# EAGLE library part SSW-103-22-F-D-VS-K-TR (library SSW-103-22-F-D-VS-K-TR)
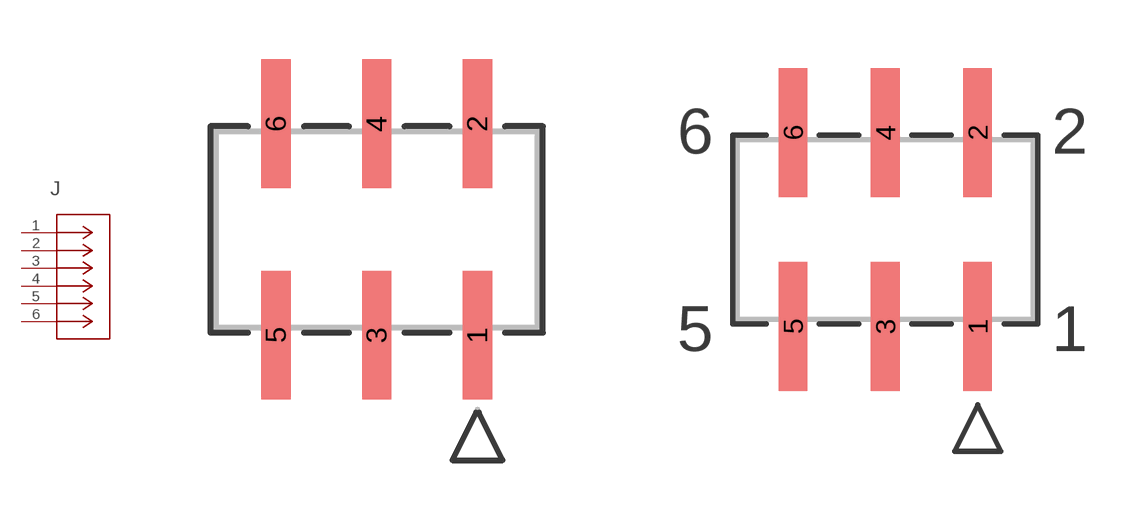
[diagram p0: symbol with the pads of CON3_SSW-D-DUMZ_HDR_SAI; footprints CON3_SSW-D-DUMZ_HDR_SAI, CON3_SSW-D-DUMZ_HDR_SAI-M]

Designator prefix J

## SSW-103-22-F-D-VS-K-TRCON3_SSW-D-DUMZ_HDR_SAI (COPYRIGHT: Copyright (C) 2022 Ultra Librarian. All rights reserved.; DIGI-KEY_PART_NUMBER_1: SAM14622CT-ND; DIGI-KEY_PART_NUMBER_2: SAM14622DKR-ND; DIGI-KEY_PART_NUMBER_3: SAM14622TR-ND; MANUFACTURER_PART_NUMBER: SSW-103-22-F-D-VS-K-TR; MFR_NAME: Samtec Inc)  [CON3_SSW-D-DUMZ_HDR_SAI]
1  1  pas
2  2  pas
3  3  pas
4  4  pas
5  5  pas
6  6  pas

## SSW-103-22-F-D-VS-K-TRCON3_SSW-D-DUMZ_HDR_SAI-M (COPYRIGHT: Copyright (C) 2022 Ultra Librarian. All rights reserved.; DIGI-KEY_PART_NUMBER_1: SAM14622CT-ND; DIGI-KEY_PART_NUMBER_2: SAM14622DKR-ND; DIGI-KEY_PART_NUMBER_3: SAM14622TR-ND; MANUFACTURER_PART_NUMBER: SSW-103-22-F-D-VS-K-TR; MFR_NAME: Samtec Inc)  [CON3_SSW-D-DUMZ_HDR_SAI-M]
Pads as for CON3_SSW-D-DUMZ_HDR_SAI

## SSW-103-22-F-D-VS-K-TRCON3_SSW-D-DUMZ_HDR_SAI-L (COPYRIGHT: Copyright (C) 2022 Ultra Librarian. All rights reserved.; DIGI-KEY_PART_NUMBER_1: SAM14622CT-ND; DIGI-KEY_PART_NUMBER_2: SAM14622DKR-ND; DIGI-KEY_PART_NUMBER_3: SAM14622TR-ND; MANUFACTURER_PART_NUMBER: SSW-103-22-F-D-VS-K-TR; MFR_NAME: Samtec Inc)  [CON3_SSW-D-DUMZ_HDR_SAI-L]
Pads as for CON3_SSW-D-DUMZ_HDR_SAI

## Footprint CON3_SSW-D-DUMZ_HDR_SAI (pad centres in mm)
smd 0.737 x 3.251: 1 2.54,-2.667; 2 2.54,2.667; 3 0,-2.667; 4 0,2.667; 5 -2.54,-2.667; 6 -2.54,2.667

## Footprint CON3_SSW-D-DUMZ_HDR_SAI-M (pad centres in mm)
smd 0.787 x 3.556: 1 2.54,-2.667; 2 2.54,2.667; 3 0,-2.667; 4 0,2.667; 5 -2.54,-2.667; 6 -2.54,2.667

## Footprint CON3_SSW-D-DUMZ_HDR_SAI-L (pad centres in mm)
smd 0.737 x 2.946: 1 2.54,-2.667; 2 2.54,2.667; 3 0,-2.667; 4 0,2.667; 5 -2.54,-2.667; 6 -2.54,2.667